# Altium footprint library con-vg.PCBLIB: 112 footprints (part 3 of 7)
Each footprint in its own frame and in the unit in brackets; x right, y up, seen from the top. Pads: shape width x height; smd on the part's side, far side on the other; paste and mask are expansions set on the pad; w line width, h text height; cw(c..) or ccw(c..) is an arc to the next point about the centre after c.
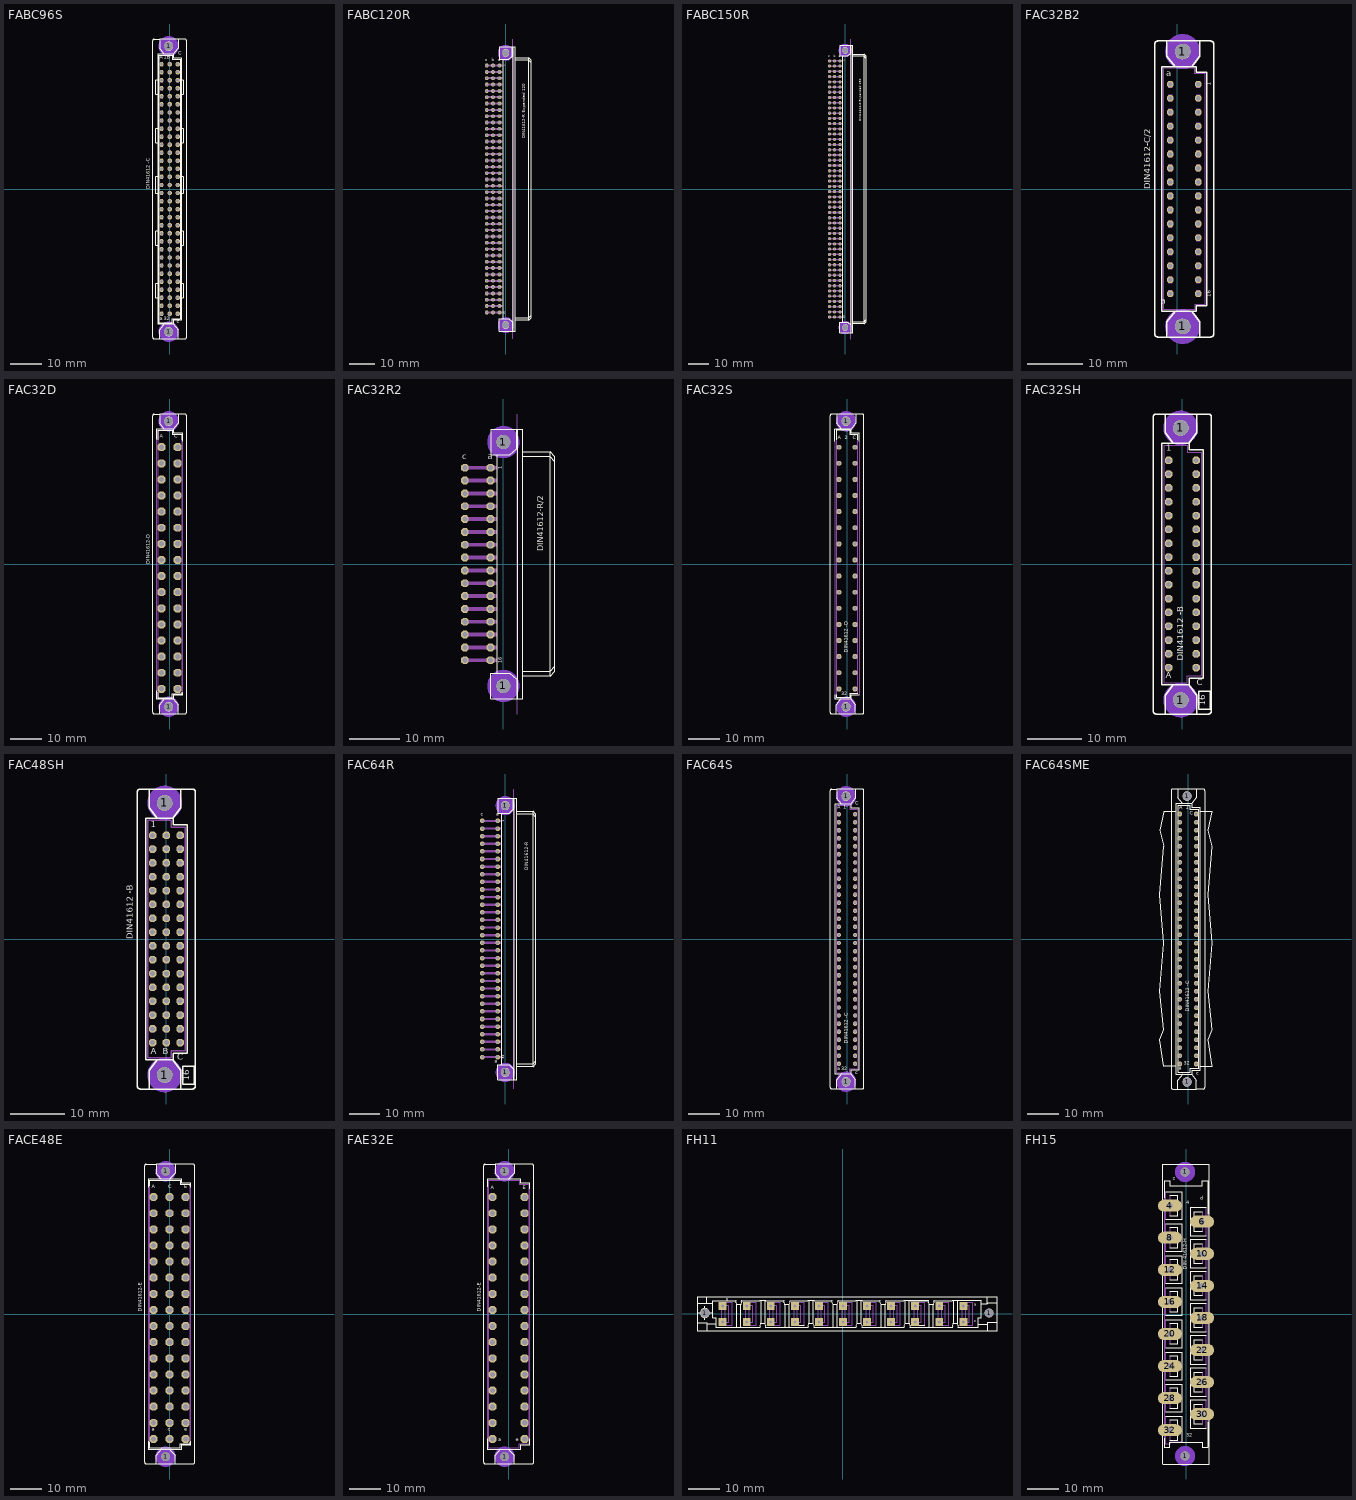
[diagram p2: the footprints below, top view; thin cyan lines are the x and y axes]

## FABC96S [mil]
pads (98):
  round 110 hole 110: 1(-12,-1772) 1(-12,1772)
  oct 54x54 hole 36: A1(-100,1550) A2(-100,1450) A3(-100,1350) A4(-100,1250) A5(-100,1150) A6(-100,1050) A7(-100,950) A8(-100,850) A9(-100,750) A10(-100,650) A11(-100,550) A12(-100,450) A13(-100,350) A14(-100,250) A15(-100,150) A16(-100,50) A17(-100,-50) A18(-100,-150) A19(-100,-250) A20(-100,-350) A21(-100,-450) A22(-100,-550) A23(-100,-650) A24(-100,-750) A25(-100,-850) A26(-100,-950) A27(-100,-1050) A28(-100,-1150) A29(-100,-1250) A30(-100,-1350) A31(-100,-1450) A32(-100,-1550) B1(0,1550) B2(0,1450) B3(0,1350) B4(0,1250) B5(0,1150) B6(0,1050) B7(0,950) B8(0,850) B9(0,750) B10(0,650) B11(0,550) B12(0,450) B13(0,350) B14(0,250) B15(0,150) B16(0,50) B17(0,-50) B18(0,-150) B19(0,-250) B20(0,-350) B21(0,-450) B22(0,-550) B23(0,-650) B24(0,-750) B25(0,-850) B26(0,-950) B27(0,-1050) B28(0,-1150) B29(0,-1250) B30(0,-1350) B31(0,-1450) B32(0,-1550) C1(100,1550) C2(100,1450) C3(100,1350) C4(100,1250) C5(100,1150) C6(100,1050) C7(100,950) C8(100,850) C9(100,750) C10(100,650) C11(100,550) C12(100,450) C13(100,350) C14(100,250) C15(100,150) C16(100,50) C17(100,-50) C18(100,-150) C19(100,-250) C20(100,-350) C21(100,-450) C22(100,-550) C23(100,-650) C24(100,-750) C25(100,-850) C26(100,-950) C27(100,-1050) C28(100,-1150) C29(100,-1250) C30(100,-1350) C31(100,-1450) C32(100,-1550)
Bottom Layer keep-out:
  circle w70: c-12,1772 r90
  circle w70: c-12,-1772 r90
Top Overlay:
  circle w6: c-12,-1772 r50
  circle w6: c-12,1772 r50
  lines w2: -150,-1350 -170,-1350 -170,-1175 -150,-1175 ; -150,-700 -170,-700 -170,-525 -150,-525 ; -150,-50 -170,-50 -170,150 -150,150 ; -150,575 -170,575 -170,750 -150,750 ; -150,1175 -170,1175 -170,1350 -150,1350 ; -135,-1660 35,-1660 ; -135,1660 35,1660 35,1610 135,1610 135,-1610 35,-1610 ; 150,-1350 170,-1350 170,-1175 150,-1175 ; 150,-700 170,-700 170,-525 150,-525 ; 150,-50 170,-50 170,150 150,150 ; 150,575 170,575 170,750 150,750 ; 150,1175 170,1175 170,1350 150,1350
  lines w6: -135,-1660 -135,1660 ; 35,-1660 35,-1610 ; -125,-1860 -125,-1750 -65,-1675 ; -125,-1860 105,-1860 ; -125,-1860 -190,-1860 cw(c-190,-1840) -210,-1840 -210,1840 cw(c-190,1840) -190,1860 -125,1860 ; -125,1860 105,1860 ; -125,1860 -125,1750 -65,1675 ; -65,-1675 -150,-1675 -150,-1175 -150,-700 -150,-525 -150,-50 -150,150 -150,575 -150,750 -150,1175 -150,1350 -150,1675 -65,1675 ; -65,-1675 45,-1675 ; -65,1675 45,1675 ; 45,-1675 50,-1675 50,-1625 150,-1625 150,-1350 150,-1175 150,-700 150,-525 150,-50 150,150 150,575 150,750 150,1175 150,1625 50,1625 50,1675 45,1675 ; 45,-1675 105,-1750 105,-1860 ; 45,1675 105,1750 105,1860 ; 105,-1860 190,-1860 ccw(c190,-1840) 210,-1840 210,1840 ccw(c190,1840) 190,1860 105,1860
  text "C" at 105,1650 h77.5
  text "32" at -70,-1645 h77.5
  text "A" at -120,1600 h77.5
  text "1B" at -70,1600 h77.5
  text "DIN41612 -C" at -225,0 h77.5
  text "a" at -120,-1645 h77.5
  text "c" at 88.07,-1687.13 h77.5
Mechanical 16:
  rectangle: 85,525 115,575
  rectangle: 85,725 115,775
  rectangle: -115,525 -85,575
  rectangle: -115,725 -85,775
  rectangle: -115,925 -85,975
  rectangle: -115,1125 -85,1175
  rectangle: -115,1325 -85,1375
  rectangle: -115,1525 -85,1575
  rectangle: 85,925 115,975
  rectangle: 85,1125 115,1175
  rectangle: 85,1325 115,1375
  rectangle: 85,1525 115,1575
  rectangle: 85,425 115,475
  rectangle: 85,625 115,675
  rectangle: -115,425 -85,475
  rectangle: -115,625 -85,675
  rectangle: -115,825 -85,875
  rectangle: -115,1025 -85,1075
  rectangle: -115,1225 -85,1275
  rectangle: -115,1425 -85,1475
  rectangle: 85,825 115,875
  rectangle: 85,1025 115,1075
  rectangle: 85,1225 115,1275
  rectangle: 85,1425 115,1475
  rectangle: 85,-675 115,-625
  rectangle: 85,-475 115,-425
  rectangle: -115,-675 -85,-625
  rectangle: -115,-475 -85,-425
  rectangle: -115,-275 -85,-225
  rectangle: -115,-75 -85,-25
  rectangle: -115,125 -85,175
  rectangle: -115,325 -85,375
  rectangle: 85,-275 115,-225
  rectangle: 85,-75 115,-25
  rectangle: 85,125 115,175
  rectangle: 85,325 115,375
  rectangle: 85,-775 115,-725
  rectangle: 85,-575 115,-525
  rectangle: -115,-775 -85,-725
  rectangle: -115,-575 -85,-525
  rectangle: -115,-375 -85,-325
  rectangle: -115,-175 -85,-125
  rectangle: -115,25 -85,75
  rectangle: -115,225 -85,275
  rectangle: 85,-375 115,-325
  rectangle: 85,-175 115,-125
  rectangle: 85,25 115,75
  rectangle: 85,225 115,275
  rectangle: -115,-1475 -85,-1425
  rectangle: -115,-1275 -85,-1225
  rectangle: -115,-1075 -85,-1025
  rectangle: -115,-875 -85,-825
  rectangle: 85,-1475 115,-1425
  rectangle: 85,-1275 115,-1225
  rectangle: 85,-1075 115,-1025
  rectangle: 85,-875 115,-825
  rectangle: -115,-1575 -85,-1525
  rectangle: -115,-1375 -85,-1325
  rectangle: -115,-1175 -85,-1125
  rectangle: -115,-975 -85,-925
  rectangle: 85,-1575 115,-1525
  rectangle: 85,-1375 115,-1325
  rectangle: 85,-1175 115,-1125
  rectangle: 85,-975 115,-925
  rectangle: -15,525 15,575
  rectangle: -15,725 15,775
  rectangle: -15,925 15,975
  rectangle: -15,1125 15,1175
  rectangle: -15,1325 15,1375
  rectangle: -15,1525 15,1575
  rectangle: -15,425 15,475
  rectangle: -15,625 15,675
  rectangle: -15,825 15,875
  rectangle: -15,1025 15,1075
  rectangle: -15,1225 15,1275
  rectangle: -15,1425 15,1475
  rectangle: -15,-675 15,-625
  rectangle: -15,-475 15,-425
  rectangle: -15,-275 15,-225
  rectangle: -15,-75 15,-25
  rectangle: -15,125 15,175
  rectangle: -15,325 15,375
  rectangle: -15,-775 15,-725
  rectangle: -15,-575 15,-525
  rectangle: -15,-375 15,-325
  rectangle: -15,-175 15,-125
  rectangle: -15,25 15,75
  rectangle: -15,225 15,275
  rectangle: -15,-1475 15,-1425
  rectangle: -15,-1275 15,-1225
  rectangle: -15,-1075 15,-1025
  rectangle: -15,-875 15,-825
  rectangle: -15,-1575 15,-1525
  rectangle: -15,-1375 15,-1325
  rectangle: -15,-1175 15,-1125
  rectangle: -15,-975 15,-925
Via Holes:
  circle w70: c-12,1772 r90
  circle w70: c-12,-1772 r90

## FABC120R [mil]
pads (122):
  round 110 hole 110: 1(0,-2150.25) 1(0,2150.25)
  oct 60x60 hole 40: A1(-100,1950) A2(-100,1850) A3(-100,1750) A4(-100,1650) A5(-100,1550) A6(-100,1450) A7(-100,1350) A8(-100,1250) A9(-100,1150) A10(-100,1050) A11(-100,950) A12(-100,850) A13(-100,750) A14(-100,650) A15(-100,550) A16(-100,450) A17(-100,350) A18(-100,250) A19(-100,150) A20(-100,50) A21(-100,-50) A22(-100,-150) A23(-100,-250) A24(-100,-350) A25(-100,-450) A26(-100,-550) A27(-100,-650) A28(-100,-750) A29(-100,-850) A30(-100,-950) A31(-100,-1050) A32(-100,-1150) A33(-100,-1250) A34(-100,-1350) A35(-100,-1450) A36(-100,-1550) A37(-100,-1650) A38(-100,-1750) A39(-100,-1850) A40(-100,-1950) B1(-200,1950) B2(-200,1850) B3(-200,1750) B4(-200,1650) B5(-200,1550) B6(-200,1450) B7(-200,1350) B8(-200,1250) B9(-200,1150) B10(-200,1050) B11(-200,950) B12(-200,850) B13(-200,750) B14(-200,650) B15(-200,550) B16(-200,450) B17(-200,350) B18(-200,250) B19(-200,150) B20(-200,50) B21(-200,-50) B22(-200,-150) B23(-200,-250) B24(-200,-350) B25(-200,-450) B26(-200,-550) B27(-200,-650) B28(-200,-750) B29(-200,-850) B30(-200,-950) B31(-200,-1050) B32(-200,-1150) B33(-200,-1250) B34(-200,-1350) B35(-200,-1450) B36(-200,-1550) B37(-200,-1650) B38(-200,-1750) B39(-200,-1850) B40(-200,-1950) C1(-300,1950) C2(-300,1850) C3(-300,1750) C4(-300,1650) C5(-300,1550) C6(-300,1450) C7(-300,1350) C8(-300,1250) C9(-300,1150) C10(-300,1050) C11(-300,950) C12(-300,850) C13(-300,750) C14(-300,650) C15(-300,550) C16(-300,450) C17(-300,350) C18(-300,250) C19(-300,150) C20(-300,50) C21(-300,-50) C22(-300,-150) C23(-300,-250) C24(-300,-350) C25(-300,-450) C26(-300,-550) C27(-300,-650) C28(-300,-750) C29(-300,-850) C30(-300,-950) C31(-300,-1050) C32(-300,-1150) C33(-300,-1250) C34(-300,-1350) C35(-300,-1450) C36(-300,-1550) C37(-300,-1650) C38(-300,-1750) C39(-300,-1850) C40(-300,-1950)
Bottom Layer keep-out:
  circle w70: c0,-2150.25 r90
  circle w70: c0,2150.25 r90
Top Overlay:
  circle w10: c0,-2150.25 r50
  circle w10: c0,2150.25 r50
  lines w2: 108.66,-2249.88 108.66,2244.88
  lines w10: -100,2250 -100,2248.43 ; 105,2245 105,2100 50,2050 -50,2050 ; 149.61,-2249.88 149.61,2244.88 ; 150,-2250 105,-2250 ; 150,-2075 365,-2075 ; 150,2075 365,2075 ; 150,2248.43 -100,2248.43 ; 155,-2035 365,-2035 ; 155,2035 365,2035 ; -100,2248.43 -100,2050 -50,2050 ; -50,-2050 -100,-2050 -100,-2250 105,-2250 ; -50,-2050 50,-2050 105,-2100 105,-2250 ; -50,-2050 -50,2050 ; 365,-2075 400,-2035 400,-1995 ; 365,-2075 365,-2035 ; 365,-2035 365,2035 ; 365,-2035 400,-1995 ; 365,2035 400,1995 ; 365,2035 365,2075 ; 365,2075 400,2035 400,1995 ; 400,-1995 400,1995
  text "1" at 0,1940 h49.6
  text "a" at -120,2000 h77.5
  text "b" at -220,2000 h77.5
  text "c" at -320,2000 h77.5
  text "40" at 0,-1975 h49.6
  text "DIN41612-R Expanded 120" at 325,800 h77.5
Mechanical 1:
  lines w0: 110,-2369 110,2369
Mechanical 16:
  rectangle: -310,1935 -50,1965
  rectangle: -310,1835 -50,1865
  rectangle: -310,1735 -50,1765
  rectangle: -310,1635 -50,1665
  rectangle: -310,1535 -50,1565
  rectangle: -310,1435 -50,1465
  rectangle: -310,1335 -50,1365
  rectangle: -310,1235 -50,1265
  rectangle: -310,1135 -50,1165
  rectangle: -310,1035 -50,1065
  rectangle: -310,935 -50,965
  rectangle: -310,835 -50,865
  rectangle: -310,735 -50,765
  rectangle: -310,635 -50,665
  rectangle: -310,535 -50,565
  rectangle: -310,435 -50,465
  rectangle: -310,335 -50,365
  rectangle: -310,235 -50,265
  rectangle: -310,135 -50,165
  rectangle: -310,35 -50,65
  rectangle: -310,-65 -50,-35
  rectangle: -310,-165 -50,-135
  rectangle: -310,-265 -50,-235
  rectangle: -310,-365 -50,-335
  rectangle: -310,-465 -50,-435
  rectangle: -310,-565 -50,-535
  rectangle: -310,-665 -50,-635
  rectangle: -310,-765 -50,-735
  rectangle: -310,-865 -50,-835
  rectangle: -310,-965 -50,-935
  rectangle: -310,-1065 -50,-1035
  rectangle: -310,-1165 -50,-1135
  rectangle: -310,-1265 -50,-1235
  rectangle: -310,-1365 -50,-1335
  rectangle: -310,-1465 -50,-1435
  rectangle: -310,-1565 -50,-1535
  rectangle: -310,-1665 -50,-1635
  rectangle: -310,-1765 -50,-1735
  rectangle: -310,-1865 -50,-1835
  rectangle: -310,-1965 -50,-1935
Via Holes:
  circle w70: c0,-2150.25 r90
  circle w70: c0,2150.25 r90

## FABC150R [mil]
pads (152):
  round 110 hole 110: 1(0,-2650.25) 1(0,2650.25)
  oct 60x60 hole 40: A1(-100,2450) A2(-100,2350) A3(-100,2250) A4(-100,2150) A5(-100,2050) A6(-100,1950) A7(-100,1850) A8(-100,1750) A9(-100,1650) A10(-100,1550) A11(-100,1450) A12(-100,1350) A13(-100,1250) A14(-100,1150) A15(-100,1050) A16(-100,950) A17(-100,850) A18(-100,750) A19(-100,650) A20(-100,550) A21(-100,450) A22(-100,350) A23(-100,250) A24(-100,150) A25(-100,50) A26(-100,-50) A27(-100,-150) A28(-100,-250) A29(-100,-350) A30(-100,-450) A31(-100,-550) A32(-100,-650) A33(-100,-750) A34(-100,-850) A35(-100,-950) A36(-100,-1050) A37(-100,-1150) A38(-100,-1250) A39(-100,-1350) A40(-100,-1450) A41(-100,-1550) A42(-100,-1650) A43(-100,-1750) A44(-100,-1850) A45(-100,-1950) A46(-100,-2050) A47(-100,-2150) A48(-100,-2250) A49(-100,-2350) A50(-100,-2450) B1(-200,2450) B2(-200,2350) B3(-200,2250) B4(-200,2150) B5(-200,2050) B6(-200,1950) B7(-200,1850) B8(-200,1750) B9(-200,1650) B10(-200,1550) B11(-200,1450) B12(-200,1350) B13(-200,1250) B14(-200,1150) B15(-200,1050) B16(-200,950) B17(-200,850) B18(-200,750) B19(-200,650) B20(-200,550) B21(-200,450) B22(-200,350) B23(-200,250) B24(-200,150) B25(-200,50) B26(-200,-50) B27(-200,-150) B28(-200,-250) B29(-200,-350) B30(-200,-450) B31(-200,-550) B32(-200,-650) B33(-200,-750) B34(-200,-850) B35(-200,-950) B36(-200,-1050) B37(-200,-1150) B38(-200,-1250) B39(-200,-1350) B40(-200,-1450) B41(-200,-1550) B42(-200,-1650) B43(-200,-1750) B44(-200,-1850) B45(-200,-1950) B46(-200,-2050) B47(-200,-2150) B48(-200,-2250) B49(-200,-2350) B50(-200,-2450) C1(-300,2450) C2(-300,2350) C3(-300,2250) C4(-300,2150) C5(-300,2050) C6(-300,1950) C7(-300,1850) C8(-300,1750) C9(-300,1650) C10(-300,1550) C11(-300,1450) C12(-300,1350) C13(-300,1250) C14(-300,1150) C15(-300,1050) C16(-300,950) C17(-300,850) C18(-300,750) C19(-300,650) C20(-300,550) C21(-300,450) C22(-300,350) C23(-300,250) C24(-300,150) C25(-300,50) C26(-300,-50) C27(-300,-150) C28(-300,-250) C29(-300,-350) C30(-300,-450) C31(-300,-550) C32(-300,-650) C33(-300,-750) C34(-300,-850) C35(-300,-950) C36(-300,-1050) C37(-300,-1150) C38(-300,-1250) C39(-300,-1350) C40(-300,-1450) C41(-300,-1550) C42(-300,-1650) C43(-300,-1750) C44(-300,-1850) C45(-300,-1950) C46(-300,-2050) C47(-300,-2150) C48(-300,-2250) C49(-300,-2350) C50(-300,-2450)
Bottom Layer keep-out:
  circle w70: c0,-2650.25 r90
  circle w70: c0,2650.25 r90
Top Overlay:
  circle w10: c0,-2650.25 r50
  circle w10: c0,2650.25 r50
  lines w2: 108.66,-2749.88 108.66,2744.88
  lines w10: -100,2750 -100,2748.43 ; 105,2745 105,2600 50,2550 -50,2550 ; 149.61,-2749.88 149.61,2744.88 ; 150,-2750 105,-2750 ; 150,-2575 365,-2575 ; 150,2575 365,2575 ; 150,2748.43 -100,2748.43 ; 155,-2535 365,-2535 ; 155,2535 365,2535 ; -100,2748.43 -100,2550 -50,2550 ; -50,-2550 -100,-2550 -100,-2750 105,-2750 ; -50,-2550 50,-2550 105,-2600 105,-2750 ; -50,-2550 -50,2550 ; 365,-2575 400,-2535 400,-2495 ; 365,-2575 365,-2535 ; 365,-2535 365,2535 ; 365,-2535 400,-2495 ; 365,2535 400,2495 ; 365,2535 365,2575 ; 365,2575 400,2535 400,2495 ; 400,-2495 400,2495
  text "1" at 0,2440 h49.6
  text "a" at -120,2500 h77.5
  text "b" at -220,2500 h77.5
  text "c" at -320,2500 h77.5
  text "50" at 0,-2475 h49.6
  text "DIN41612-R Expanded 150" at 325,1300 h77.5
Mechanical 1:
  lines w0: 110,-2869 110,2869
Mechanical 16:
  rectangle: -310,2435 -50,2465
  rectangle: -310,2335 -50,2365
  rectangle: -310,2235 -50,2265
  rectangle: -310,2135 -50,2165
  rectangle: -310,2035 -50,2065
  rectangle: -310,1935 -50,1965
  rectangle: -310,1835 -50,1865
  rectangle: -310,1735 -50,1765
  rectangle: -310,1635 -50,1665
  rectangle: -310,1535 -50,1565
  rectangle: -310,1435 -50,1465
  rectangle: -310,1335 -50,1365
  rectangle: -310,1235 -50,1265
  rectangle: -310,1135 -50,1165
  rectangle: -310,1035 -50,1065
  rectangle: -310,935 -50,965
  rectangle: -310,835 -50,865
  rectangle: -310,735 -50,765
  rectangle: -310,635 -50,665
  rectangle: -310,535 -50,565
  rectangle: -310,435 -50,465
  rectangle: -310,335 -50,365
  rectangle: -310,235 -50,265
  rectangle: -310,135 -50,165
  rectangle: -310,35 -50,65
  rectangle: -310,-65 -50,-35
  rectangle: -310,-165 -50,-135
  rectangle: -310,-265 -50,-235
  rectangle: -310,-365 -50,-335
  rectangle: -310,-465 -50,-435
  rectangle: -310,-565 -50,-535
  rectangle: -310,-665 -50,-635
  rectangle: -310,-765 -50,-735
  rectangle: -310,-865 -50,-835
  rectangle: -310,-965 -50,-935
  rectangle: -310,-1065 -50,-1035
  rectangle: -310,-1165 -50,-1135
  rectangle: -310,-1265 -50,-1235
  rectangle: -310,-1365 -50,-1335
  rectangle: -310,-1465 -50,-1435
  rectangle: -310,-1565 -50,-1535
  rectangle: -310,-1665 -50,-1635
  rectangle: -310,-1765 -50,-1735
  rectangle: -310,-1865 -50,-1835
  rectangle: -310,-1965 -50,-1935
  rectangle: -310,-2065 -50,-2035
  rectangle: -310,-2165 -50,-2135
  rectangle: -310,-2265 -50,-2235
  rectangle: -310,-2365 -50,-2335
  rectangle: -310,-2465 -50,-2435
Via Holes:
  circle w70: c0,-2650.25 r90
  circle w70: c0,2650.25 r90

## FAC32B2 [mil]
pads (34):
  round 110 hole 110: 1(38,-984.25) 1(38,984.25)
  oct 48x48 hole 32: A1(-50,750) A2(-50,650) A3(-50,550) A4(-50,450) A5(-50,350) A6(-50,250) A7(-50,150) A8(-50,50) A9(-50,-50) A10(-50,-150) A11(-50,-250) A12(-50,-350) A13(-50,-450) A14(-50,-550) A15(-50,-650) A16(-50,-750) C1(150,750) C2(150,650) C3(150,550) C4(150,450) C5(150,350) C6(150,250) C7(150,150) C8(150,50) C9(150,-50) C10(150,-150) C11(150,-250) C12(150,-350) C13(150,-450) C14(150,-550) C15(150,-650) C16(150,-750)
Bottom Layer keep-out:
  circle w70: c38,-984.25 r90
  circle w70: c38,984.25 r90
Top Overlay:
  circle w10: c38,-984.25 r50
  circle w10: c38,984.25 r50
  lines w10: 260,1040 260,-1040 cw(c240,-1040) 240,-1060 160,-1060 ; 260.87,1040.12 ccw(c237.99,1036.99) 240,1060 160,1060 ; -75,-1060 -75,-950 -15,-875 ; -75,-1060 160,-1060 ; -75,-1060 -140,-1060 cw(c-140,-1040) -160,-1040 -160,1040 cw(c-140,1040) -140,1060 -75,1060 ; -75,1060 -75,950 -15,875 ; -75,1060 160,1060 ; -15,-875 105,-875 ; -15,-875 -110,-875 -110,875 -15,875 ; -15,875 105,875 ; 105,-875 160,-950 160,-1060 ; 105,-875 135,-875 135,-835 210,-835 210,835 135,835 135,875 105,875 ; 105,875 160,950 160,1060
  text "1" at 250,740 h49.6
  text "16" at 250,-775 h49.6
  text "a" at -80,790 h77.5
  text "a" at -120.12,-840 h77.5
  text "DIN41612-C/2" at -175,0 h77.5
Mechanical 16:
  rectangle: -65,-775 -35,-725
  rectangle: -65,-675 -35,-625
  rectangle: -65,-575 -35,-525
  rectangle: -65,-475 -35,-425
  rectangle: -65,-375 -35,-325
  rectangle: -65,-275 -35,-225
  rectangle: -65,-175 -35,-125
  rectangle: -65,-75 -35,-25
  rectangle: -65,25 -35,75
  rectangle: -65,125 -35,175
  rectangle: -65,225 -35,275
  rectangle: -65,325 -35,375
  rectangle: -65,425 -35,475
  rectangle: -65,525 -35,575
  rectangle: -65,625 -35,675
  rectangle: -65,725 -35,775
  rectangle: 135,725 165,775
  rectangle: 135,625 165,675
  rectangle: 135,525 165,575
  rectangle: 135,425 165,475
  rectangle: 135,325 165,375
  rectangle: 135,225 165,275
  rectangle: 135,125 165,175
  rectangle: 135,25 165,75
  rectangle: 135,-75 165,-25
  rectangle: 135,-175 165,-125
  rectangle: 135,-275 165,-225
  rectangle: 135,-375 165,-325
  rectangle: 135,-475 165,-425
  rectangle: 135,-575 165,-525
  rectangle: 135,-675 165,-625
  rectangle: 135,-775 165,-725
  lines w2: -100,-865 -100,865 125,865 125,825 200,825 200,-825 125,-825 125,-865 -100,-865
Via Holes:
  circle w70: c38,-984.25 r90
  circle w70: c38,984.25 r90

## FAC32D [mil]
pads (34):
  round 110 hole 110: 1(-12,-1772) 1(-12,1772)
  oct 99x99 hole 66: A2(-100,1450) A4(-100,1250) A6(-100,1050) A8(-100,850) A10(-100,650) A12(-100,450) A14(-100,250) A16(-100,50) A18(-100,-150) A20(-100,-350) A22(-100,-550) A24(-100,-750) A26(-100,-950) A28(-100,-1150) A30(-100,-1350) A32(-100,-1550) C2(100,1450) C4(100,1250) C6(100,1050) C8(100,850) C10(100,650) C12(100,450) C14(100,250) C16(100,50) C18(100,-150) C20(100,-350) C22(100,-550) C24(100,-750) C26(100,-950) C28(100,-1150) C30(100,-1350) C32(100,-1550)
Bottom Layer keep-out:
  circle w70: c-12,1772 r90
  circle w70: c-12,-1772 r90
Top Overlay:
  circle w10: c-12,-1772 r50
  circle w10: c-12,1772 r50
  lines w10: -165,-1575 -165,-1675 -65,-1675 ; -165,1550 -165,1675 -65,1675 ; -150,-1590 -150,-1660 35,-1660 35,-1610 150,-1610 150,-1590 ; -150,1540 -150,1660 35,1660 35,1610 150,1610 150,1540 ; 165,-1600 165,-1625 50,-1625 50,-1675 45,-1675 ; 165,1525 165,1625 50,1625 50,1675 45,1675 ; -125,-1860 -125,-1750 -65,-1675 ; -125,-1860 105,-1860 ; -125,-1860 -190,-1860 cw(c-190,-1840) -210,-1840 -210,1840 cw(c-190,1840) -190,1860 -125,1860 ; -125,1860 105,1860 ; -125,1860 -125,1750 -65,1675 ; -65,-1675 45,-1675 ; -65,1675 45,1675 ; 45,-1675 105,-1750 105,-1860 ; 45,1675 105,1750 105,1860 ; 105,-1860 190,-1860 ccw(c190,-1840) 210,-1840 210,1840 ccw(c190,1840) 190,1860 105,1860
  text "C" at 55,1550 h77.5
  text "A" at -120,1550 h77.5
  text "DIN41612-D" at -225,0 h77.5
Mechanical 16:
  rectangle: 85,425 115,475
  rectangle: 85,625 115,675
  rectangle: -115,425 -85,475
  rectangle: -115,625 -85,675
  rectangle: -115,825 -85,875
  rectangle: -115,1025 -85,1075
  rectangle: -115,1225 -85,1275
  rectangle: -115,1425 -85,1475
  rectangle: 85,825 115,875
  rectangle: 85,1025 115,1075
  rectangle: 85,1225 115,1275
  rectangle: 85,1425 115,1475
  rectangle: 85,-775 115,-725
  rectangle: 85,-575 115,-525
  rectangle: -115,-775 -85,-725
  rectangle: -115,-575 -85,-525
  rectangle: -115,-375 -85,-325
  rectangle: -115,-175 -85,-125
  rectangle: -115,25 -85,75
  rectangle: -115,225 -85,275
  rectangle: 85,-375 115,-325
  rectangle: 85,-175 115,-125
  rectangle: 85,25 115,75
  rectangle: 85,225 115,275
  rectangle: -115,-1575 -85,-1525
  rectangle: -115,-1375 -85,-1325
  rectangle: -115,-1175 -85,-1125
  rectangle: -115,-975 -85,-925
  rectangle: 85,-1575 115,-1525
  rectangle: 85,-1375 115,-1325
  rectangle: 85,-1175 115,-1125
  rectangle: 85,-975 115,-925
  lines w10: -165,-1675 -165,1675 ; -150,-1660 -150,1660 ; 150,-1610 150,1610 ; 165,-1625 165,1625
Via Holes:
  circle w70: c-12,1772 r90
  circle w70: c-12,-1772 r90

## FAC32R2 [mil]
pads (34):
  round 110 hole 110: 1(0,-950.25) 1(0,950.25)
  oct 60x60 hole 40: A1(-100,750) A2(-100,650) A3(-100,550) A4(-100,450) A5(-100,350) A6(-100,250) A7(-100,150) A8(-100,50) A9(-100,-50) A10(-100,-150) A11(-100,-250) A12(-100,-350) A13(-100,-450) A14(-100,-550) A15(-100,-650) A16(-100,-750) C1(-300,750) C2(-300,650) C3(-300,550) C4(-300,450) C5(-300,350) C6(-300,250) C7(-300,150) C8(-300,50) C9(-300,-50) C10(-300,-150) C11(-300,-250) C12(-300,-350) C13(-300,-450) C14(-300,-550) C15(-300,-650) C16(-300,-750)
Bottom Layer keep-out:
  circle w70: c0,-950.25 r90
  circle w70: c0,950.25 r90
Top Overlay:
  circle w6: c0,-950.25 r50
  circle w6: c0,950.25 r50
  lines w6: 150,-875 365,-875 ; 150,875 365,875 ; 155,-835 365,-835 ; 155,835 365,835 ; 365,-875 400,-835 400,-795 ; 365,-875 365,-835 ; 365,-835 365,835 ; 365,-835 400,-795 ; 365,835 400,795 ; 365,835 365,875 ; 365,875 400,835 400,795 ; 400,-795 400,795
  lines w8: -100,1050 -100,1048.43 ; 105,1045 105,900 50,850 -50,850 ; 108.66,-1049.88 108.66,1044.88 ; 149.61,-1049.88 149.61,1044.88 ; 150,-1050 105,-1050 ; 150,1048.43 -100,1048.43 ; -100,1048.43 -100,850 -50,850 ; -50,-850 -100,-850 -100,-1050 105,-1050 ; -50,-850 50,-850 105,-900 105,-1050 ; -50,-850 -50,850
  text "1" at 0,740 h49.6
  text "16" at 0,-775 h49.6
  text "a" at -120,800 h77.5
  text "c" at -320,800 h77.5
  text "DIN41612-R/2" at 325,100 h77.5
Mechanical 1:
  lines w0: 110,-1169 110,1169
Mechanical 16:
  rectangle: -310,735 -50,765
  rectangle: -310,635 -50,665
  rectangle: -310,535 -50,565
  rectangle: -310,435 -50,465
  rectangle: -310,335 -50,365
  rectangle: -310,235 -50,265
  rectangle: -310,135 -50,165
  rectangle: -310,35 -50,65
  rectangle: -310,-65 -50,-35
  rectangle: -310,-165 -50,-135
  rectangle: -310,-265 -50,-235
  rectangle: -310,-365 -50,-335
  rectangle: -310,-465 -50,-435
  rectangle: -310,-565 -50,-535
  rectangle: -310,-665 -50,-635
  rectangle: -310,-765 -50,-735
Via Holes:
  circle w70: c0,-950.25 r90
  circle w70: c0,950.25 r90

## FAC32S [mil]
pads (34):
  round 110 hole 110: 1(-12,-1772) 1(-12,1772)
  oct 60x60 hole 40: A2(-100,1450) A4(-100,1250) A6(-100,1050) A8(-100,850) A10(-100,650) A12(-100,450) A14(-100,250) A16(-100,50) A18(-100,-150) A20(-100,-350) A22(-100,-550) A24(-100,-750) A26(-100,-950) A28(-100,-1150) A30(-100,-1350) A32(-100,-1550) C2(100,1450) C4(100,1250) C6(100,1050) C8(100,850) C10(100,650) C12(100,450) C14(100,250) C16(100,50) C18(100,-150) C20(100,-350) C22(100,-550) C24(100,-750) C26(100,-950) C28(100,-1150) C30(100,-1350) C32(100,-1550)
Bottom Layer keep-out:
  circle w70: c-12,1772 r90
  circle w70: c-12,-1772 r90
Top Overlay:
  circle w10: c-12,-1772 r50
  circle w10: c-12,1772 r50
  lines w10: -150,-1625 -150,-1675 -75,-1675 ; -150,1525 -150,1675 -65,1675 ; -135,-1625 -135,-1660 35,-1660 35,-1610 135,-1610 ; -135,1540 -135,1660 35,1660 35,1610 135,1610 135,1540 ; 150,-1625 50,-1625 50,-1675 45,-1675 ; 150,1525 150,1625 50,1625 50,1675 ; -135,-1860 -190,-1860 cw(c-190,-1840) -210,-1840 -210,1840 cw(c-190,1840) -190,1860 -125,1860 ; -135,-1860 -135,-1750 -75,-1675 ; -135,-1860 105,-1860 ; -125,1860 110,1860 ; -125,1860 -125,1750 -65,1675 ; -75,-1675 45,-1675 ; -65,1675 50,1675 ; 45,-1675 105,-1750 105,-1860 ; 50,1675 110,1750 110,1860 ; 105,-1860 190,-1860 ccw(c190,-1840) 210,-1840 210,1840 ccw(c190,1840) 190,1860 110,1860
  text "C" at 70,1530 h77.5
  text "32" at -70,-1650 h77.5
  text "A" at -115,1530 h77.5
  text "2" at -25,1530 h77.5
  text "DIN41612 -D" at 25,-1100 h77.5
Mechanical 16:
  rectangle: 85,25 115,75
  rectangle: 85,225 115,275
  rectangle: -115,25 -85,75
  rectangle: -115,225 -85,275
  rectangle: -115,425 -85,475
  rectangle: -115,625 -85,675
  rectangle: -115,825 -85,875
  rectangle: -115,1025 -85,1075
  rectangle: -115,1225 -85,1275
  rectangle: -115,1425 -85,1475
  rectangle: 85,425 115,475
  rectangle: 85,625 115,675
  rectangle: 85,825 115,875
  rectangle: 85,1025 115,1075
  rectangle: 85,1225 115,1275
  rectangle: 85,1425 115,1475
  rectangle: 85,-1175 115,-1125
  rectangle: 85,-975 115,-925
  rectangle: -115,-1175 -85,-1125
  rectangle: -115,-975 -85,-925
  rectangle: -115,-775 -85,-725
  rectangle: -115,-575 -85,-525
  rectangle: -115,-375 -85,-325
  rectangle: -115,-175 -85,-125
  rectangle: 85,-775 115,-725
  rectangle: 85,-575 115,-525
  rectangle: 85,-375 115,-325
  rectangle: 85,-175 115,-125
  rectangle: 85,-1375 115,-1325
  rectangle: -115,-1375 -85,-1325
  rectangle: 85,-1575 115,-1525
  rectangle: -115,-1575 -85,-1525
  lines w10: -150,-1675 -150,1525 ; -135,-1655 -135,1540 ; 135,-1610 135,-795 ; 135,-790 135,-795 ; 135,1540 135,-795 ; 150,-1625 150,1525
Via Holes:
  circle w70: c-12,1772 r90
  circle w70: c-12,-1772 r90

## FAC32SH [mil]
pads (34):
  round 110 hole 110: 1(-12,-984) 1(-12,984)
  oct 54x54 hole 36: A1(-100,750) A2(-100,650) A3(-100,550) A4(-100,450) A5(-100,350) A6(-100,250) A7(-100,150) A8(-100,50) A9(-100,-50) A10(-100,-150) A11(-100,-250) A12(-100,-350) A13(-100,-450) A14(-100,-550) A15(-100,-650) A16(-100,-750) C1(100,750) C2(100,650) C3(100,550) C4(100,450) C5(100,350) C6(100,250) C7(100,150) C8(100,50) C9(100,-50) C10(100,-150) C11(100,-250) C12(100,-350) C13(100,-450) C14(100,-550) C15(100,-650) C16(100,-750)
Bottom Layer keep-out:
  circle w70: c-12,984 r90
  circle w70: c-12,-984 r90
Top Overlay:
  circle w10: c-12,-984 r50
  circle w10: c-12,984 r50
  lines w10: -125,-1085 -125,-950 -65,-875 ; -125,-1085 105,-1085 ; -125,-1085 -190,-1085 cw(c-190,-1065) -210,-1065 -210,1065 cw(c-190,1065) -190,1085 -125,1085 ; -125,1085 105,1085 ; -125,1085 -125,950 -65,875 ; -65,-875 -150,-875 -150,875 -65,875 ; -65,-875 45,-875 ; -65,875 45,875 ; 45,-875 50,-875 50,-825 150,-825 150,825 50,825 50,875 45,875 ; 45,-875 105,-950 105,-1085 ; 45,875 105,950 105,1085 ; 105,-1085 190,-1085 ccw(c190,-1065) 210,-1065 210,1065 ccw(c190,1065) 190,1085 105,1085 ; 120,-1050 120,-920 200,-920 200,-1050 120,-1050
  text "1" at -115,800 h77.5
  text "C" at 105,-895 h77.5
  text "A" at -120,-845 h77.5
  text "16" at 185,-1025 h77.5
  text "DIN41612 -B" at 25,-700 h77.5
Mechanical 16:
  rectangle: 85,-275 115,-225
  rectangle: 85,-75 115,-25
  rectangle: -115,-275 -85,-225
  rectangle: -115,-75 -85,-25
  rectangle: -115,125 -85,175
  rectangle: -115,325 -85,375
  rectangle: -115,525 -85,575
  rectangle: -115,725 -85,775
  rectangle: 85,125 115,175
  rectangle: 85,325 115,375
  rectangle: 85,525 115,575
  rectangle: 85,725 115,775
  rectangle: 85,-375 115,-325
  rectangle: 85,-175 115,-125
  rectangle: -115,-375 -85,-325
  rectangle: -115,-175 -85,-125
  rectangle: -115,25 -85,75
  rectangle: -115,225 -85,275
  rectangle: -115,425 -85,475
  rectangle: -115,625 -85,675
  rectangle: 85,25 115,75
  rectangle: 85,225 115,275
  rectangle: 85,425 115,475
  rectangle: 85,625 115,675
  rectangle: -115,-675 -85,-625
  rectangle: -115,-475 -85,-425
  rectangle: 85,-675 115,-625
  rectangle: 85,-475 115,-425
  rectangle: -115,-775 -85,-725
  rectangle: -115,-575 -85,-525
  rectangle: 85,-775 115,-725
  rectangle: 85,-575 115,-525
  lines w2: 35,-860 -135,-860 -135,860 35,860 ; 35,-810 135,-810 135,810 35,810
  lines w6: 35,-860 35,-810 ; 35,810 35,860
Via Holes:
  circle w70: c-12,984 r90
  circle w70: c-12,-984 r90

## FAC48SH [mil]
pads (50):
  round 110 hole 110: 1(-12,-984) 1(-12,984)
  oct 54x54 hole 36: A1(-100,750) A2(-100,650) A3(-100,550) A4(-100,450) A5(-100,350) A6(-100,250) A7(-100,150) A8(-100,50) A9(-100,-50) A10(-100,-150) A11(-100,-250) A12(-100,-350) A13(-100,-450) A14(-100,-550) A15(-100,-650) A16(-100,-750) B1(0,750) B2(0,650) B3(0,550) B4(0,450) B5(0,350) B6(0,250) B7(0,150) B8(0,50) B9(0,-50) B10(0,-150) B11(0,-250) B12(0,-350) B13(0,-450) B14(0,-550) B15(0,-650) B16(0,-750) C1(100,750) C2(100,650) C3(100,550) C4(100,450) C5(100,350) C6(100,250) C7(100,150) C8(100,50) C9(100,-50) C10(100,-150) C11(100,-250) C12(100,-350) C13(100,-450) C14(100,-550) C15(100,-650) C16(100,-750)
Bottom Layer keep-out:
  circle w70: c-12,984 r90
  circle w70: c-12,-984 r90
Top Overlay:
  circle w10: c-12,-984 r50
  circle w10: c-12,984 r50
  lines w10: -125,-1085 -125,-950 -65,-875 ; -125,-1085 105,-1085 ; -125,-1085 -190,-1085 cw(c-190,-1065) -210,-1065 -210,1065 cw(c-190,1065) -190,1085 -125,1085 ; -125,1085 105,1085 ; -125,1085 -125,950 -65,875 ; -65,-875 -150,-875 -150,875 -65,875 ; -65,-875 45,-875 ; -65,875 45,875 ; 45,-875 50,-875 50,-825 150,-825 150,825 50,825 50,875 45,875 ; 45,-875 105,-950 105,-1085 ; 45,875 105,950 105,1085 ; 105,-1085 190,-1085 ccw(c190,-1065) 210,-1065 210,1065 ccw(c190,1065) 190,1085 105,1085 ; 120,-1050 200,-1050 200,-920 120,-920 120,-1050
  text "1" at -115,790 h77.5
  text "C" at 80,-890 h77.5
  text "A" at -115,-850 h77.5
  text "16" at 185,-1025 h77.5
  text "B" at -25,-850 h77.5
  text "DIN41612 -B" at -225,0 h77.5
Mechanical 16:
  rectangle: 85,-275 115,-225
  rectangle: 85,-75 115,-25
  rectangle: -115,-275 -85,-225
  rectangle: -115,-75 -85,-25
  rectangle: -115,125 -85,175
  rectangle: -115,325 -85,375
  rectangle: -115,525 -85,575
  rectangle: -115,725 -85,775
  rectangle: 85,125 115,175
  rectangle: 85,325 115,375
  rectangle: 85,525 115,575
  rectangle: 85,725 115,775
  rectangle: 85,-375 115,-325
  rectangle: 85,-175 115,-125
  rectangle: -115,-375 -85,-325
  rectangle: -115,-175 -85,-125
  rectangle: -115,25 -85,75
  rectangle: -115,225 -85,275
  rectangle: -115,425 -85,475
  rectangle: -115,625 -85,675
  rectangle: 85,25 115,75
  rectangle: 85,225 115,275
  rectangle: 85,425 115,475
  rectangle: 85,625 115,675
  rectangle: -115,-675 -85,-625
  rectangle: -115,-475 -85,-425
  rectangle: 85,-675 115,-625
  rectangle: 85,-475 115,-425
  rectangle: -115,-775 -85,-725
  rectangle: -115,-575 -85,-525
  rectangle: 85,-775 115,-725
  rectangle: 85,-575 115,-525
  rectangle: -15,-775 15,-725
  rectangle: -15,-675 15,-625
  rectangle: -15,-575 15,-525
  rectangle: -15,-475 15,-425
  rectangle: -15,-375 15,-325
  rectangle: -15,-275 15,-225
  rectangle: -15,-175 15,-125
  rectangle: -15,-75 15,-25
  rectangle: -15,25 15,75
  rectangle: -15,125 15,175
  rectangle: -15,225 15,275
  rectangle: -15,325 15,375
  rectangle: -15,425 15,475
  rectangle: -15,525 15,575
  rectangle: -15,625 15,675
  rectangle: -15,725 15,775
  lines w10: -135,-860 -135,860 35,860 35,810 135,810 135,-810 35,-810 35,-860 -135,-860
Via Holes:
  circle w70: c-12,984 r90
  circle w70: c-12,-984 r90

## FAC64R [mil]
pads (66):
  round 110 hole 110: 1(0,-1750.25) 1(0,1750.25)
  oct 60x60 hole 40: A1(-100,1550) A2(-100,1450) A3(-100,1350) A4(-100,1250) A5(-100,1150) A6(-100,1050) A7(-100,950) A8(-100,850) A9(-100,750) A10(-100,650) A11(-100,550) A12(-100,450) A13(-100,350) A14(-100,250) A15(-100,150) A16(-100,50) A17(-100,-50) A18(-100,-150) A19(-100,-250) A20(-100,-350) A21(-100,-450) A22(-100,-550) A23(-100,-650) A24(-100,-750) A25(-100,-850) A26(-100,-950) A27(-100,-1050) A28(-100,-1150) A29(-100,-1250) A30(-100,-1350) A31(-100,-1450) A32(-100,-1550) C1(-300,1550) C2(-300,1450) C3(-300,1350) C4(-300,1250) C5(-300,1150) C6(-300,1050) C7(-300,950) C8(-300,850) C9(-300,750) C10(-300,650) C11(-300,550) C12(-300,450) C13(-300,350) C14(-300,250) C15(-300,150) C16(-300,50) C17(-300,-50) C18(-300,-150) C19(-300,-250) C20(-300,-350) C21(-300,-450) C22(-300,-550) C23(-300,-650) C24(-300,-750) C25(-300,-850) C26(-300,-950) C27(-300,-1050) C28(-300,-1150) C29(-300,-1250) C30(-300,-1350) C31(-300,-1450) C32(-300,-1550)
Bottom Layer keep-out:
  circle w70: c0,-1750.25 r90
  circle w70: c0,1750.25 r90
Top Overlay:
  circle w10: c0,-1750.25 r50
  circle w10: c0,1750.25 r50
  lines w2: 108.66,-1849.88 108.66,1844.88
  lines w10: -100,1850 -100,1848.43 ; 105,1845 105,1700 50,1650 -50,1650 ; 149.61,-1849.88 149.61,1844.88 ; 150,-1850 105,-1850 ; 150,-1675 365,-1675 ; 150,1675 365,1675 ; 150,1848.43 -100,1848.43 ; 155,-1635 365,-1635 ; 155,1635 365,1635 ; -100,1848.43 -100,1650 -50,1650 ; -50,-1650 -100,-1650 -100,-1850 105,-1850 ; -50,-1650 50,-1650 105,-1700 105,-1850 ; -50,-1650 -50,1650 ; 365,-1675 400,-1635 400,-1595 ; 365,-1675 365,-1635 ; 365,-1635 365,1635 ; 365,-1635 400,-1595 ; 365,1635 400,1595 ; 365,1635 365,1675 ; 365,1675 400,1635 400,1595 ; 400,-1595 400,1595
  text "1" at 0,1540 h49.6
  text "a" at -120,1600 h77.5
  text "a" at -135,-1645 h77.5
  text "c" at -320,1600 h77.5
  text "32" at 0,-1575 h49.6
  text "DIN41612-R" at 325,900 h77.5
Mechanical 1:
  lines w0: 110,-1969 110,1969
Mechanical 16:
  rectangle: -310,1535 -50,1565
  rectangle: -310,1435 -50,1465
  rectangle: -310,1335 -50,1365
  rectangle: -310,1235 -50,1265
  rectangle: -310,1135 -50,1165
  rectangle: -310,1035 -50,1065
  rectangle: -310,935 -50,965
  rectangle: -310,835 -50,865
  rectangle: -310,735 -50,765
  rectangle: -310,635 -50,665
  rectangle: -310,535 -50,565
  rectangle: -310,435 -50,465
  rectangle: -310,335 -50,365
  rectangle: -310,235 -50,265
  rectangle: -310,135 -50,165
  rectangle: -310,35 -50,65
  rectangle: -310,-65 -50,-35
  rectangle: -310,-165 -50,-135
  rectangle: -310,-265 -50,-235
  rectangle: -310,-365 -50,-335
  rectangle: -310,-465 -50,-435
  rectangle: -310,-565 -50,-535
  rectangle: -310,-665 -50,-635
  rectangle: -310,-765 -50,-735
  rectangle: -310,-865 -50,-835
  rectangle: -310,-965 -50,-935
  rectangle: -310,-1065 -50,-1035
  rectangle: -310,-1165 -50,-1135
  rectangle: -310,-1265 -50,-1235
  rectangle: -310,-1365 -50,-1335
  rectangle: -310,-1465 -50,-1435
  rectangle: -310,-1565 -50,-1535
Via Holes:
  circle w70: c0,-1750.25 r90
  circle w70: c0,1750.25 r90

## FAC64S [mil]
pads (66):
  round 110 hole 110: 1(-12,-1772) 1(-12,1772)
  oct 54x54 hole 36: A1(-100,1550) A2(-100,1450) A3(-100,1350) A4(-100,1250) A5(-100,1150) A6(-100,1050) A7(-100,950) A8(-100,850) A9(-100,750) A10(-100,650) A11(-100,550) A12(-100,450) A13(-100,350) A14(-100,250) A15(-100,150) A16(-100,50) A17(-100,-50) A18(-100,-150) A19(-100,-250) A20(-100,-350) A21(-100,-450) A22(-100,-550) A23(-100,-650) A24(-100,-750) A25(-100,-850) A26(-100,-950) A27(-100,-1050) A28(-100,-1150) A29(-100,-1250) A30(-100,-1350) A31(-100,-1450) A32(-100,-1550) C1(100,1550) C2(100,1450) C3(100,1350) C4(100,1250) C5(100,1150) C6(100,1050) C7(100,950) C8(100,850) C9(100,750) C10(100,650) C11(100,550) C12(100,450) C13(100,350) C14(100,250) C15(100,150) C16(100,50) C17(100,-50) C18(100,-150) C19(100,-250) C20(100,-350) C21(100,-450) C22(100,-550) C23(100,-650) C24(100,-750) C25(100,-850) C26(100,-950) C27(100,-1050) C28(100,-1150) C29(100,-1250) C30(100,-1350) C31(100,-1450) C32(100,-1550)
Bottom Layer keep-out:
  circle w70: c-12,1772 r90
  circle w70: c-12,-1772 r90
Top Overlay:
  circle w10: c-12,-1772 r50
  circle w10: c-12,1772 r50
  lines w10: -125,-1860 -125,-1750 -65,-1675 ; -125,-1860 105,-1860 ; -125,-1860 -190,-1860 cw(c-190,-1840) -210,-1840 -210,1840 cw(c-190,1840) -190,1860 -125,1860 ; -125,1860 105,1860 ; -125,1860 -125,1750 -65,1675 ; -65,-1675 -150,-1675 -150,1675 -65,1675 ; -65,-1675 45,-1675 ; -65,1675 45,1675 ; 45,-1675 50,-1675 50,-1625 150,-1625 150,1625 50,1625 50,1675 45,1675 ; 45,-1675 105,-1750 105,-1860 ; 45,1675 105,1750 105,1860 ; 105,-1860 190,-1860 ccw(c190,-1840) 210,-1840 210,1840 ccw(c190,1840) 190,1860 105,1860
  text "C" at 105,1650 h77.5
  text "32" at -70,-1645 h77.5
  text "1" at -45,1600 h77.5
  text "A" at -120,1600 h77.5
  text "DIN41612 -C" at 25,-1300 h77.5
  text "a" at -120,-1645 h77.5
  text "c" at 105,-1695 h77.5
Mechanical 16:
  rectangle: 85,525 115,575
  rectangle: 85,725 115,775
  rectangle: -115,525 -85,575
  rectangle: -115,725 -85,775
  rectangle: -115,925 -85,975
  rectangle: -115,1125 -85,1175
  rectangle: -115,1325 -85,1375
  rectangle: -115,1525 -85,1575
  rectangle: 85,925 115,975
  rectangle: 85,1125 115,1175
  rectangle: 85,1325 115,1375
  rectangle: 85,1525 115,1575
  rectangle: 85,425 115,475
  rectangle: 85,625 115,675
  rectangle: -115,425 -85,475
  rectangle: -115,625 -85,675
  rectangle: -115,825 -85,875
  rectangle: -115,1025 -85,1075
  rectangle: -115,1225 -85,1275
  rectangle: -115,1425 -85,1475
  rectangle: 85,825 115,875
  rectangle: 85,1025 115,1075
  rectangle: 85,1225 115,1275
  rectangle: 85,1425 115,1475
  rectangle: 85,-675 115,-625
  rectangle: 85,-475 115,-425
  rectangle: -115,-675 -85,-625
  rectangle: -115,-475 -85,-425
  rectangle: -115,-275 -85,-225
  rectangle: -115,-75 -85,-25
  rectangle: -115,125 -85,175
  rectangle: -115,325 -85,375
  rectangle: 85,-275 115,-225
  rectangle: 85,-75 115,-25
  rectangle: 85,125 115,175
  rectangle: 85,325 115,375
  rectangle: 85,-775 115,-725
  rectangle: 85,-575 115,-525
  rectangle: -115,-775 -85,-725
  rectangle: -115,-575 -85,-525
  rectangle: -115,-375 -85,-325
  rectangle: -115,-175 -85,-125
  rectangle: -115,25 -85,75
  rectangle: -115,225 -85,275
  rectangle: 85,-375 115,-325
  rectangle: 85,-175 115,-125
  rectangle: 85,25 115,75
  rectangle: 85,225 115,275
  rectangle: -115,-1475 -85,-1425
  rectangle: -115,-1275 -85,-1225
  rectangle: -115,-1075 -85,-1025
  rectangle: -115,-875 -85,-825
  rectangle: 85,-1475 115,-1425
  rectangle: 85,-1275 115,-1225
  rectangle: 85,-1075 115,-1025
  rectangle: 85,-875 115,-825
  rectangle: -115,-1575 -85,-1525
  rectangle: -115,-1375 -85,-1325
  rectangle: -115,-1175 -85,-1125
  rectangle: -115,-975 -85,-925
  rectangle: 85,-1575 115,-1525
  rectangle: 85,-1375 115,-1325
  rectangle: 85,-1175 115,-1125
  rectangle: 85,-975 115,-925
  lines w10: -135,-1660 -135,1660 35,1660 35,1610 135,1610 135,-1610 35,-1610 35,-1660 -135,-1660
Via Holes:
  circle w70: c-12,1772 r90
  circle w70: c-12,-1772 r90

## FAC64SME [mil]
pads (66):
  round 110 hole 110: 1(-12,-1772) 1(-12,1772)
  oct 56x56 hole 39.37: A1(-100,1550) A2(-100,1450) A3(-100,1350) A4(-100,1250) A5(-100,1150) A6(-100,1050) A7(-100,950) A8(-100,850) A9(-100,750) A10(-100,650) A11(-100,550) A12(-100,450) A13(-100,350) A14(-100,250) A15(-100,150) A16(-100,50) A17(-100,-50) A18(-100,-150) A19(-100,-250) A20(-100,-350) A21(-100,-450) A22(-100,-550) A23(-100,-650) A24(-100,-750) A25(-100,-850) A26(-100,-950) A27(-100,-1050) A28(-100,-1150) A29(-100,-1250) A30(-100,-1350) A31(-100,-1450) A32(-100,-1550) C1(100,1550) C2(100,1450) C3(100,1350) C4(100,1250) C5(100,1150) C6(100,1050) C7(100,950) C8(100,850) C9(100,750) C10(100,650) C11(100,550) C12(100,450) C13(100,350) C14(100,250) C15(100,150) C16(100,50) C17(100,-50) C18(100,-150) C19(100,-250) C20(100,-350) C21(100,-450) C22(100,-550) C23(100,-650) C24(100,-750) C25(100,-850) C26(100,-950) C27(100,-1050) C28(100,-1150) C29(100,-1250) C30(100,-1350) C31(100,-1450) C32(100,-1550)
Top Overlay:
  circle w10: c-12,-1772 r50
  circle w10: c-12,1772 r50
  lines w10: -150,-1575 -300,-1575 -350,-1250 -300,-1125 -350,-650 -300,-50 -350,550 -300,1150 -350,1350 -300,1575 -150,1575 ; -150,-1575 -150,-1675 -65,-1675 ; -150,-1575 -150,1575 ; -150,1575 -150,1675 -65,1675 ; -125,-1860 -125,-1750 -65,-1675 ; -125,-1860 105,-1860 ; -125,-1860 -190,-1860 cw(c-190,-1840) -210,-1840 -210,1840 cw(c-190,1840) -190,1860 -125,1860 ; -125,1860 105,1860 ; -125,1860 -125,1750 -65,1675 ; -65,-1675 45,-1675 ; -65,1675 45,1675 ; 45,-1675 50,-1675 50,-1625 150,-1625 150,-1575 ; 45,-1675 105,-1750 105,-1860 ; 45,1675 50,1675 50,1625 150,1625 150,1575 ; 45,1675 105,1750 105,1860 ; 105,-1860 190,-1860 ccw(c190,-1840) 210,-1840 210,1840 ccw(c190,1840) 190,1860 105,1860 ; 150,-1575 300,-1575 250,-1250 300,-1125 250,-650 300,-50 250,550 300,1150 250,1350 300,1575 150,1575 ; 150,-1575 150,1575 ; -130,-1655 30,-1655 30,-1605 130,-1605 130,1605 30,1605 30,1655 -130,1655 -130,-1655
  text "32" at -50,-1575 h77.5
  text "A" at -110,1590 h77.5
  text "1" at -30,1590 h77.5
  text "C" at 20,1525 h77.5
  text "DIN41612 -C" at 35,-900 h77.5
  text "a" at -115,-1640 h77.5
  text "c" at 105,-1700 h77.5
Mechanical 16:
  rectangle: -115,1325 -85,1375
  rectangle: -115,1125 -85,1175
  rectangle: 85,1325 115,1375
  rectangle: 85,1125 115,1175
  rectangle: 85,925 115,975
  rectangle: 85,725 115,775
  rectangle: 85,525 115,575
  rectangle: 85,325 115,375
  rectangle: -115,925 -85,975
  rectangle: -115,725 -85,775
  rectangle: -115,525 -85,575
  rectangle: -115,325 -85,375
  rectangle: -115,1425 -85,1475
  rectangle: -115,1225 -85,1275
  rectangle: 85,1425 115,1475
  rectangle: 85,1225 115,1275
  rectangle: 85,1025 115,1075
  rectangle: 85,825 115,875
  rectangle: 85,625 115,675
  rectangle: 85,425 115,475
  rectangle: -115,1025 -85,1075
  rectangle: -115,825 -85,875
  rectangle: -115,625 -85,675
  rectangle: -115,425 -85,475
  rectangle: -115,1525 -85,1575
  rectangle: 85,1525 115,1575
  rectangle: -115,225 -85,275
  rectangle: -115,25 -85,75
  rectangle: 85,225 115,275
  rectangle: 85,25 115,75
  rectangle: 85,-175 115,-125
  rectangle: 85,-375 115,-325
  rectangle: 85,-575 115,-525
  rectangle: 85,-775 115,-725
  rectangle: -115,-175 -85,-125
  rectangle: -115,-375 -85,-325
  rectangle: -115,-575 -85,-525
  rectangle: -115,-775 -85,-725
  rectangle: -115,125 -85,175
  rectangle: -115,-75 -85,-25
  rectangle: 85,125 115,175
  rectangle: 85,-75 115,-25
  rectangle: 85,-275 115,-225
  rectangle: 85,-475 115,-425
  rectangle: 85,-675 115,-625
  rectangle: 85,-875 115,-825
  rectangle: -115,-275 -85,-225
  rectangle: -115,-475 -85,-425
  rectangle: -115,-675 -85,-625
  rectangle: -115,-875 -85,-825
  rectangle: -115,-975 -85,-925
  rectangle: -115,-1175 -85,-1125
  rectangle: 85,-975 115,-925
  rectangle: 85,-1175 115,-1125
  rectangle: 85,-1375 115,-1325
  rectangle: 85,-1575 115,-1525
  rectangle: 85,-1275 115,-1225
  rectangle: 85,-1075 115,-1025
  rectangle: -115,-1375 -85,-1325
  rectangle: -115,-1575 -85,-1525
  rectangle: -115,-1275 -85,-1225
  rectangle: -115,-1075 -85,-1025
  rectangle: 85,-1475 115,-1425
  rectangle: -115,-1475 -85,-1425

## FACE48E [mil]
pads (50):
  round 110 hole 110: 1(-50,-1771) 1(-50,1771)
  oct 99x99 hole 66: A2(-200,1450) A4(-200,1250) A6(-200,1050) A8(-200,850) A10(-200,650) A12(-200,450) A14(-200,250) A16(-200,50) A18(-200,-150) A20(-200,-350) A22(-200,-550) A24(-200,-750) A26(-200,-950) A28(-200,-1150) A30(-200,-1350) A32(-200,-1550) C2(0,1450) C4(0,1250) C6(0,1050) C8(0,850) C10(0,650) C12(0,450) C14(0,250) C16(0,50) C18(0,-150) C20(0,-350) C22(0,-550) C24(0,-750) C26(0,-950) C28(0,-1150) C30(0,-1350) C32(0,-1550) E2(200,1450) E4(200,1250) E6(200,1050) E8(200,850) E10(200,650) E12(200,450) E14(200,250) E16(200,50) E18(200,-150) E20(200,-350) E22(200,-550) E24(200,-750) E26(200,-950) E28(200,-1150) E30(200,-1350) E32(200,-1550)
Bottom Layer keep-out:
  circle w70: c-50,1771 r90
  circle w70: c-50,-1771 r90
Top Overlay:
  lines w10: -265,-1576 -265,-1675 -103,-1675 ; -265,1575 -265,1674 -103,1674 ; -250,-1591 -250,-1660 134,-1660 134,-1610 250,-1610 250,-1591 ; -250,1590 -250,1659 134,1659 134,1609 250,1609 250,1590 ; 265,-1576 265,-1625 149,-1625 149,-1675 -6,-1675 ; 265,1575 265,1624 149,1624 149,1674 -6,1674 ; -163,-1860 -163,-1750 -103,-1675 ; -163,-1860 67,-1860 ; -163,-1860 -290,-1860 cw(c-290,-1840) -310,-1840 -310,1839 cw(c-290,1839) -290,1859 -163,1859 ; -163,1859 67,1859 ; -163,1859 -163,1749 -103,1674 ; -103,-1675 -6,-1675 ; -103,1674 -6,1674 ; -6,-1675 67,-1750 67,-1860 ; -6,1674 67,1749 67,1859 ; 67,-1860 290,-1860 ccw(c290,-1840) 310,-1840 310,1839 ccw(c290,1839) 290,1859 67,1859
  text "A" at -218.5,1542.32 h77.5
  text "C" at -19.69,1542.32 h77.5
  text "E" at 180.12,1542.32 h77.5
  text "DIN41612-E" at -325,28 h77.5
  text "a" at -220,-1467 h77.5
  text "c" at -20,-1467 h77.5
  text "e" at 181.1,-1466.54 h77.5
Mechanical 16:
  rectangle: -15,425 15,475
  rectangle: -15,625 15,675
  rectangle: -215,425 -185,475
  rectangle: -215,625 -185,675
  rectangle: -215,825 -185,875
  rectangle: -215,1025 -185,1075
  rectangle: -215,1225 -185,1275
  rectangle: -215,1425 -185,1475
  rectangle: -15,825 15,875
  rectangle: -15,1025 15,1075
  rectangle: -15,1225 15,1275
  rectangle: -15,1425 15,1475
  rectangle: -15,-775 15,-725
  rectangle: -15,-575 15,-525
  rectangle: -215,-775 -185,-725
  rectangle: -215,-575 -185,-525
  rectangle: -215,-375 -185,-325
  rectangle: -215,-175 -185,-125
  rectangle: -215,25 -185,75
  rectangle: -215,225 -185,275
  rectangle: -15,-375 15,-325
  rectangle: -15,-175 15,-125
  rectangle: -15,25 15,75
  rectangle: -15,225 15,275
  rectangle: -215,-1575 -185,-1525
  rectangle: -215,-1375 -185,-1325
  rectangle: -215,-1175 -185,-1125
  rectangle: -215,-975 -185,-925
  rectangle: -15,-1575 15,-1525
  rectangle: -15,-1375 15,-1325
  rectangle: -15,-1175 15,-1125
  rectangle: -15,-975 15,-925
  rectangle: 185,1425 215,1475
  rectangle: 185,1225 215,1275
  rectangle: 185,1025 215,1075
  rectangle: 185,825 215,875
  rectangle: 185,625 215,675
  rectangle: 185,425 215,475
  rectangle: 185,225 215,275
  rectangle: 185,25 215,75
  rectangle: 185,-175 215,-125
  rectangle: 185,-375 215,-325
  rectangle: 185,-575 215,-525
  rectangle: 185,-775 215,-725
  rectangle: 185,-975 215,-925
  rectangle: 185,-1175 215,-1125
  rectangle: 185,-1375 215,-1325
  rectangle: 185,-1575 215,-1525
  lines w10: -265,-1675 -265,1674 ; -265,1203 -265,1578 ; -250,-1660 -250,1659 ; 250,-1610 250,1609 ; 265,-1625 265,1624 ; 265,778 265,1203
Via Holes:
  circle w70: c-50,1771 r90
  circle w70: c-50,-1771 r90

## FAE32E [mil]
pads (34):
  round 110 hole 110: 1(-50,-1771) 1(-50,1771)
  oct 99x99 hole 66: A2(-200,1450) A4(-200,1250) A6(-200,1050) A8(-200,850) A10(-200,650) A12(-200,450) A14(-200,250) A16(-200,50) A18(-200,-150) A20(-200,-350) A22(-200,-550) A24(-200,-750) A26(-200,-950) A28(-200,-1150) A30(-200,-1350) A32(-200,-1550) E2(200,1450) E4(200,1250) E6(200,1050) E8(200,850) E10(200,650) E12(200,450) E14(200,250) E16(200,50) E18(200,-150) E20(200,-350) E22(200,-550) E24(200,-750) E26(200,-950) E28(200,-1150) E30(200,-1350) E32(200,-1550)
Bottom Layer keep-out:
  circle w70: c-50,1771 r90
  circle w70: c-50,-1771 r90
Top Overlay:
  lines w10: -265,-1547 -265,-1675 -103,-1675 ; -265,1578 -265,1674 -103,1674 ; 265,-1625 149,-1625 149,-1675 -6,-1675 ; 265,-1622 265,-1547 ; 265,1553 265,1624 149,1624 149,1674 -6,1674 ; -163,-1860 -163,-1750 -103,-1675 ; -163,-1860 67,-1860 ; -163,-1860 -290,-1860 cw(c-290,-1840) -310,-1840 -310,1839 cw(c-290,1839) -290,1859 -163,1859 ; -163,1859 67,1859 ; -163,1859 -163,1749 -103,1674 ; -103,-1675 -6,-1675 ; -103,1674 -6,1674 ; -6,-1675 67,-1750 67,-1860 ; -6,1674 67,1749 67,1859 ; 67,-1860 290,-1860 ccw(c290,-1840) 310,-1840 310,1839 ccw(c290,1839) 290,1859 67,1859
  text "A" at -220,1528 h77.5
  text "E" at 178.15,1528.54 h77.5
  text "DIN41612-E" at -325,28 h77.5
  text "a" at -126.97,-1599.41 h77.5
  text "e" at 89.57,-1599.41 h77.5
Mechanical 16:
  rectangle: -215,425 -185,475
  rectangle: -215,625 -185,675
  rectangle: -215,825 -185,875
  rectangle: -215,1025 -185,1075
  rectangle: -215,1225 -185,1275
  rectangle: -215,1425 -185,1475
  rectangle: -215,-775 -185,-725
  rectangle: -215,-575 -185,-525
  rectangle: -215,-375 -185,-325
  rectangle: -215,-175 -185,-125
  rectangle: -215,25 -185,75
  rectangle: -215,225 -185,275
  rectangle: -215,-1575 -185,-1525
  rectangle: -215,-1375 -185,-1325
  rectangle: -215,-1175 -185,-1125
  rectangle: -215,-975 -185,-925
  rectangle: 185,1425 215,1475
  rectangle: 185,1225 215,1275
  rectangle: 185,1025 215,1075
  rectangle: 185,825 215,875
  rectangle: 185,625 215,675
  rectangle: 185,425 215,475
  rectangle: 185,225 215,275
  rectangle: 185,25 215,75
  rectangle: 185,-175 215,-125
  rectangle: 185,-375 215,-325
  rectangle: 185,-575 215,-525
  rectangle: 185,-775 215,-725
  rectangle: 185,-975 215,-925
  rectangle: 185,-1175 215,-1125
  rectangle: 185,-1375 215,-1325
  rectangle: 185,-1575 215,-1525
  lines w10: -265,-1675 -265,1674 ; 265,-1625 265,1624 ; -250,-1660 -250,1659 134,1659 134,1609 250,1609 250,-1610 134,-1610 134,-1660 -250,-1660
Via Holes:
  circle w70: c-50,1771 r90
  circle w70: c-50,-1771 r90

## FH11 [mm]
pads (24):
  round 2.8 hole 2.8: 1(-43.73,0.3) 1(46.27,0.3)
  rect 2.5x2.5 hole 1: A2(38.1,-2.54) A5(30.48,-2.54) A8(22.86,-2.54) A11(15.24,-2.54) A14(7.62,-2.54) A17(0,-2.54) A20(-7.62,-2.54) A23(-15.24,-2.54) A26(-22.86,-2.54) A29(-30.48,-2.54) A32(-38.1,-2.54) B2(38.1,2.54) B5(30.48,2.54) B8(22.86,2.54) B11(15.24,2.54) B14(7.62,2.54) B17(0,2.54) B20(-7.62,2.54) B23(-15.24,2.54) B26(-22.86,2.54) B29(-30.48,2.54) B32(-38.1,2.54)
Top Overlay:
  drawing of 165 lines, arcs and shapes, not listed
  text "c" at 41.55,-2.975 h1.39
  text "a" at 41.575,2.325 h1.39
Mechanical 16:
  lines w0.203: -15.67,-3.609 -15.67,3.591 -12.27,3.591 -12.27,-3.609 ; 22.43,-3.609 22.43,3.591 25.83,3.591 25.83,-3.609 ; -38.53,-3.609 -38.53,3.591 -35.13,3.591 -35.13,-3.609 -38.53,-3.609 ; -37.48,-2.559 -37.48,2.541 -36.18,2.541 -36.18,-2.559 -37.48,-2.559 ; -30.91,-3.609 -30.91,3.591 -27.51,3.591 -27.51,-3.609 -30.91,-3.609 ; -29.86,-2.559 -28.56,-2.559 -28.56,2.541 -29.86,2.541 -29.86,-2.559 ; -23.29,-3.609 -23.29,3.591 -19.89,3.591 -19.89,-3.609 -23.29,-3.609 ; -22.24,-2.559 -20.94,-2.559 -20.94,2.541 -22.24,2.541 -22.24,-2.559 ; -14.62,-2.559 -13.32,-2.559 -13.32,2.541 -14.62,2.541 -14.62,-2.559 ; -8.05,-3.609 -8.05,3.591 -4.65,3.591 -4.65,-3.609 -8.05,-3.609 ; -7,-2.559 -5.7,-2.559 -5.7,2.541 -7,2.541 -7,-2.559 ; -0.43,-3.609 -0.43,3.591 2.97,3.591 2.97,-3.609 -0.43,-3.609 ; 0.62,-2.559 1.92,-2.559 1.92,2.541 0.62,2.541 0.62,-2.559 ; 7.19,-3.609 7.19,3.591 10.59,3.591 10.59,-3.609 7.19,-3.609 ; 8.24,-2.559 9.54,-2.559 9.54,2.541 8.24,2.541 8.24,-2.559 ; 14.81,-3.609 14.81,3.591 18.21,3.591 18.21,-3.609 14.81,-3.609 ; 15.86,-2.559 17.16,-2.559 17.16,2.541 15.86,2.541 15.86,-2.559 ; 23.48,-2.559 24.78,-2.559 24.78,2.541 23.48,2.541 23.48,-2.559 ; 30.05,-3.609 30.05,3.591 33.45,3.591 33.45,-3.609 30.05,-3.609 ; 31.1,-2.559 32.4,-2.559 32.4,2.541 31.1,2.541 31.1,-2.559 ; 37.67,-3.609 37.67,3.591 41.07,3.591 41.07,-3.609 37.67,-3.609 ; 38.72,-2.559 40.02,-2.559 40.02,2.541 38.72,2.541 38.72,-2.559

## FH15 [mil]
pads (17):
  round 110 hole 110: 1(-12,-1771) 1(-12,1771)
  oval 300x150 hole 66: 4(-200,1351) 6(200,1151) 8(-200,951) 10(200,751) 12(-200,551) 14(200,351) 16(-200,151) 18(200,-49) 20(-200,-249) 22(200,-449) 24(-200,-649) 26(200,-849) 28(-200,-1049) 30(200,-1249) 32(-200,-1449)
Bottom Layer keep-out:
  circle w70: c-12,1771 r90
  circle w70: c-12,-1771 r90
Top Overlay:
  lines w10: -291.34,-1864.02 -291.34,1870 ; -287.4,-1870.08 290,-1870.08 ; -287.4,1870.08 290,1870.08 ; -270,-1662 -270,-1550 ; -270,1450 -270,1660 ; -269.41,-1663.39 -200,-1663.39 -200,-1600 -50,-1600 ; -267.4,1663.39 -200,1663.39 -200,1600 200,1600 200,1663.39 270,1663.39 ; -250,-1274 -50,-1274 -50,-1600 ; -250,-1224 -50,-1224 -50,-874 -250,-874 ; -250,-824 -50,-824 -50,-474 -250,-474 ; -250,-424 -50,-424 -50,-74 -250,-74 ; -250,-24 -50,-24 -50,326 -250,326 ; -250,376 -50,376 -50,726 -250,726 ; -250,776 -50,776 -50,1126 -250,1126 ; -250,1176 -50,1176 -50,1526 -250,1526 ; -200,-1574 -100,-1574 -100,-1324 -200,-1324 ; -200,-1174 -100,-1174 -100,-924 -200,-924 ; -200,-774 -100,-774 -100,-524 -200,-524 ; -200,-374 -100,-374 -100,-124 -200,-124 ; -200,26 -100,26 -100,276 -200,276 ; -200,426 -100,426 -100,676 -200,676 ; -200,826 -100,826 -100,1076 -200,1076 ; -200,1226 -100,1226 -100,1476 -200,1476 ; 200,-1374 100,-1374 100,-1124 200,-1124 ; 200,-974 100,-974 100,-724 200,-724 ; 200,-574 100,-574 100,-324 200,-324 ; 200,-174 100,-174 100,76 200,76 ; 200,226 100,226 100,476 200,476 ; 200,626 100,626 100,876 200,876 ; 200,1026 100,1026 100,1276 200,1276 ; 250,-1424 50,-1424 50,-1074 250,-1074 ; 250,-1024 50,-1024 50,-674 250,-674 ; 250,-624 50,-624 50,-274 250,-274 ; 250,-224 50,-224 50,126 250,126 ; 250,176 50,176 50,526 250,526 ; 250,576 50,576 50,926 250,926 ; 250,976 50,976 50,1326 250,1326 ; 270,-1663.39 200,-1663.39 200,-1600 -50,-1600 ; 270,-1660 270,-1350 ; 270,1250 270,1660 ; 291.34,-1864.02 291.34,1870
  text "32" at 0,-1550 h77.5
  text "d" at 175,1404 h77.5
  text "z" at -165,1654 h77.5
  text "DIN 41612-H" at 30,550 h77.5
  text "4" at 0,1350 h77.5
Mechanical 16:
  lines w10: -270,-1550 -270,1450 ; -250,-1274 -250,-1624 -200,-1624 -200,-1600 -50,-1600 ; -250,-1224 -250,-874 ; -250,-824 -250,-474 ; -250,-424 -250,-74 ; -250,-24 -250,326 ; -250,376 -250,726 ; -250,776 -250,1126 ; -250,1176 -250,1526 ; -200,-1574 -200,-1324 ; -200,-1174 -200,-924 ; -200,-774 -200,-524 ; -200,-374 -200,-124 ; -200,26 -200,276 ; -200,426 -200,676 ; -200,826 -200,1076 ; -200,1226 -200,1476 ; 200,-1374 200,-1124 ; 200,-974 200,-724 ; 200,-574 200,-324 ; 200,-174 200,76 ; 200,226 200,476 ; 200,626 200,876 ; 200,1026 200,1276 ; 250,-1424 250,-1074 ; 250,-1024 250,-674 ; 250,-624 250,-274 ; 250,-224 250,126 ; 250,176 250,526 ; 250,576 250,926 ; 250,976 250,1326 ; 270,-1350 270,1250
Via Holes:
  circle w70: c-12,1771 r90
  circle w70: c-12,-1771 r90